# EAGLE library part IMU_LSM6SDSO (library custom v65)
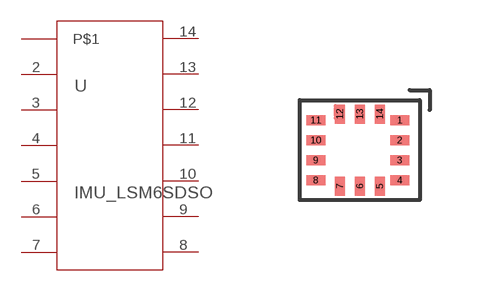
[diagram p0: symbol with the pads of IMU_LGA-14L; footprint IMU_LGA-14L]

Designator prefix U

## IMU_LSM6SDSOLSM6SDSO  [IMU_LGA-14L]
1  P$1
2  P$2
3  P$3
4  P$4
5  P$5
6  P$6
7  P$7
8  P$8
9  P$9
10  P$10
11  P$11
12  P$12
13  P$13
14  P$14

## Footprint IMU_LGA-14L (pad centres in mm)
smd 0.475 x 0.25: 1 1,0.75; 2 1,0.25; 3 1,-0.25; 4 1,-0.75; 8 -1.1,-0.75; 9 -1.1,-0.25; 10 -1.1,0.25; 11 -1.1,0.75
smd 0.25 x 0.475: 5 0.5,-0.9; 6 0,-0.9; 7 -0.5,-0.9; 12 -0.5,0.9; 13 0,0.9; 14 0.5,0.9